# Altium integrated library Z1_Project.IntLib: 23 symbols
Pins are listed as number, name and electrical type; pins without a type are passive.

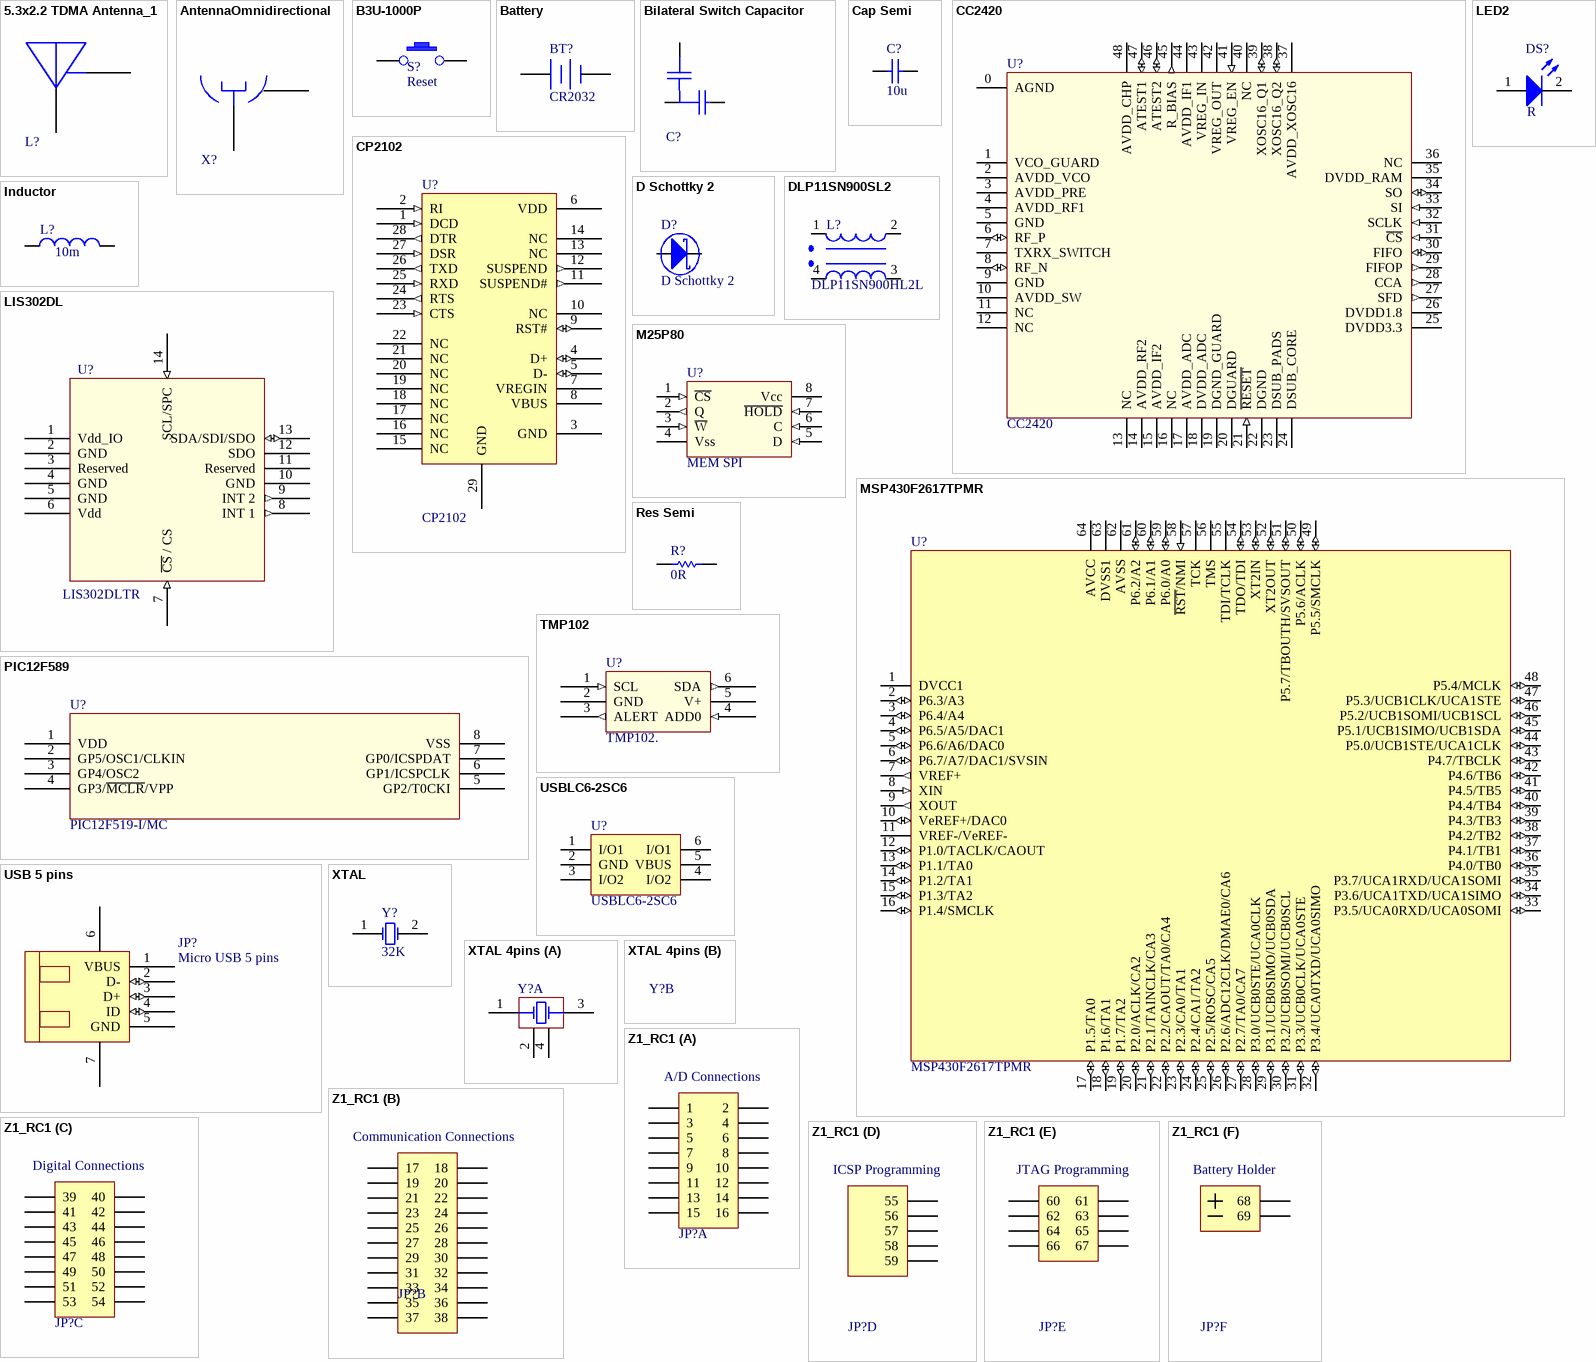
[diagram p0: symbols 5.3x2.2 TDMA Antenna_1 to Z1_RC1]

## 5.3x2.2 TDMA Antenna_1
designator L?, comment Ceramic Antenna  (value not drawn)
ANT 2.4GHZ 802.11 BLUETOOTH SMD; PartNumber: 431115300245; Manufacturer: PHYCOMP; OrderCode2: 1282672; UnitsPrice1: 100; Class: Passive; Distributor2: Farnell; Distributor3: *; OrderCode3: *; Mounted: Is Switched; Price1: 1.9; Price2: *; Price3: *; UnitsPrice2: *; UnitsPrice3: *; Datasheet: http://www.farnell.com/datasheets/48853.pdf
footprint YAGEO - CAW431115300245 (2.45Ghz Ceramic Annennta Yageo)
pins: 1 +, 2 GND

## AntennaOmnidirectional
designator X?, comment U.FL RF Connector  (value not drawn)
CONN RF MICROCOAXIAL SMD GOLD; PartNumber: 73412-0110; Manufacturer: Molex; OrderCode1: WM5587CT-ND; UnitsPrice1: 1000; Mounted: Yes; Distributor1: Digikey; Price1: 0.27488; Class: Connector; Datasheet: http://www.molex.com/pdm_docs/sd/734120110_sd.pdf; SubClass: Connector
footprint SMA JACK RADIALL (Straight Jack Receptacle for PCB solder legs)
footprint U.FL (Ultra small surface mount coaxial connectors)
footprint W.FL (Ultra small surface mount coaxial connectors)
pins: 1 +, 2 GND

## B3U-1000P
designator S?, comment Reset
Ultra-small Tactile Switch; Manufacturer: Omron; PartNumber: B3U-1000P; OrderCode1: SW1020CT-ND; OrderCode2: 1333652; UnitsPrice1: 1000; SubClass: PushButton; Mounted: Yes; Distributor1: Digikey; Distributor2: Farnell; Price1: 0.39186; Price2: 0,48; UnitsPrice2: 1000; Datasheet: http://www.components.omron.com/components/web/pdflib.nsf/0/7BE78C95147AE4A685257201007DD630/$file/MSG_Switches_8.06.pdf
footprint B3U-1000P (Ultra-small Tactile Switch for a 3x2.5mm body)
pins: 1, 2

## Battery
designator BT?, comment CR2032
Multicell Battery; Manufacturer: Tyco Electronics; PartNumber: 796136-1; OrderCode1: A99327-ND; UnitsPrice1: 500; UnitsPrice2: 10; Class: Connector; Value: +3.3V; Mounted: *; Distributor1: Digikey; Distributor2: Digikey; OrderCode2: A99327-ND; Price1: 1.111; Price2: 2.01; Datasheet: http://documents.tycoelectronics.com/commerce/DocumentDelivery/DDEController?Action=srchrtrv&DocNm=796136&DocType=CD&DocLang=EN
footprint BATTERYCLIP
footprint PCB_CR2477
footprint Dual battery Clip (AAA N & P Serial Dual battery Clip)
footprint CR2032 (Battery Holder SMT)
footprint PCB_CR2477_hf
footprint Battery 9V (Horizontal 9 volt pc snap-ons)
footprint BAT-HLD-001 (HOLDER BATTERY 20MM COIN CR2032)
footprint CR2032 - 796136-1 (BATTERY HOLDER SMD CR2032 Part Number: 796136-1)
pins: 1 +, 2 -

## Bilateral Switch Capacitor
designator C?  (value not drawn)
Manufacturer: AVX; PartNumber: 04025U5R6CAT2A; OrderCode1: 7568088; UnitsPrice1: 1000; Class: Passive; Value: 5p6; Distributor1: Farnell; Price1: 0,064; Datasheet: http://www.farnell.com/datasheets/319610.pdf; SubClass: Capacitor
footprint Dual Capacitor Switch (Is two 0402 with a pad common.)
signal-integrity model Cap Semi
simulation model CAP
pins: 1, 2, 3

## Cap Semi
designator C?  value 10u  (hidden comment: Cap Semi)
CAP CER 10UF 6.3V X5R 0603; Manufacturer: Generic Components; PartNumber: C0603C106M9PACTU; Class: Passive; SubClass: Capacitor; OrderCode1: 399-5504-1-ND; UnitsPrice1: 1000; Mounted: *; Distributor1: Digikey; Price1: 0.10571; Datasheet: http://www.kemet.com/datasheets&C0603C106M9PACTU
simulation model CAP (Semiconductor Capacitor)
signal-integrity model Cap Semi
footprint CC1005-0402 (Chip Capacitor; Body 1.0 x 0.5 mm (LxW typ))
footprint CC1310-0504 (Chip Capacitor; Body 1.2 x 1.0 mm (LxW typ))
footprint CC1608-0603 (Chip Capacitor; Body 1.6 x 0.8 mm (LxW typ))
footprint CC2013-0805 (Chip Capacitor; Body 2.0 x 1.3 mm (LxW typ))
footprint CC3216-1206 (Chip Capacitor; Body 3.2 x 1.6 mm (LxW typ))
footprint CC3225-1210 (Chip Capacitor; Body 3.2 x 2.5 mm (LxW typ))
footprint CC-0402-AL
pins: 1, 2

## CC2420
designator U?
2.4 GHz IEEE 802.15.4 / ZigBee-ready RF Transceiver; Manufacturer: Texas Instruments; PartNumber: CC2420RTC; OrderCode1: 296-19585-5-ND; UnitsPrice1: 1000; Distributor1: Digikey; Price1: 4.56250; Datasheet: http://focus.ti.com/lit/ds/symlink/cc2420.pdf
footprint QFN7X7-48 (Quad Flat No Lead; 48 Terminals; Body 7 x 7 mm; Pitch 0.5 mm)
pins: 0 AGND (power) "Exposed die attach pad. Must be connected to solid ground   plane", 1 VCO_GUARD (power) "Connection of guard ring for VCO (to AVDD) shielding", 2 AVDD_VCO (power) "1.8 V Power supply for VCO", 3 AVDD_PRE (power) "1.8 V Power supply for Prescaler", 4 AVDD_RF1 (power) "1.8 V Power supply for RF front-end", 5 GND (power) "Grounded pin for RF shielding", 6 RF_P (io) "Positive RF input/output signal to LNA/from PA in   receive/transmit mode", 7 TXRX_SWITCH (power) "Common supply connection for integrated RF front-end. Must be connected to RF_P and RF_N externally through a DC path", 8 RF_N (io) "Negative RF input/output signal to LNA/from PA in   receive/transmit mode", 9 GND (power) "Grounded pin for RF shielding", 10 AVDD_SW (power) "1.8 V Power supply for LNA / PA switch", 11 NC, 12 NC, 13 NC, 14 AVDD_RF2 (power) "1.8 V Power supply for receive and transmit mixers", 15 AVDD_IF2 (power) "1.8 V Power supply for transmit / receive IF chain", 16 NC, 17 AVDD_ADC (power) "1.8 V Power supply for analog parts of ADCs and DACs", 18 DVDD_ADC (power) "1.8 V Power supply for digital parts of receive ADCs", 19 DGND_GUARD (power) "Ground connection for digital noise isolation", 20 DGUARD (power) "1.8 V Power supply connection for digital noise isolation", 21 ~{RESET} (in) "Asynchronous, active low digital reset", 22 DGND (power) "Ground connection for digital core and pads", 23 DSUB_PADS (power) "Substrate connection for digital pads", 24 DSUB_CORE (power) "Substrate connection for digital modules", 25 DVDD3.3 (power) "3.3 V Power supply for digital I/Os", 26 DVDD1.8 (power) "1.8 V Power supply for digital core", 27 SFD (out) "SFD (Start of Frame Delimiter) / digital mux output", 28 CCA (out) "CCA (Clear Channel Assessment) / digital mux output", 29 FIFOP (out) "High when number of bytes in FIFO exceeds threshold /   serial RF clock output in test mode", 30 FIFO (io) "High when data in FIFO /   serial RF data input / output in test mode", 31 ~{CS} (in) "SPI Chip select, active low", 32 SCLK (in) "SPI Clock input, up to 10 MHz", 33 SI (in) "SPI Slave Input. Sampled on the positive edge of SCLK", 34 SO (io) "SPI Slave Output. Updated on the negative edge of SCLK. Tristate when CSn high.", 35 DVDD_RAM (power) "1.8 V Power supply for digital RAM", 36 NC, 37 AVDD_XOSC16 (power) "1.8 V crystal oscillator power supply", 38 XOSC16_Q2 (io) "16 MHz Crystal oscillator pin 2", 39 XOSC16_Q1 (io) "16 MHz Crystal oscillator pin 1 or external clock input", 40 NC (power), 41 VREG_EN (in) "Voltage regulator enable, active high, held at VREG_IN voltage level when active", 42 VREG_OUT (power) "Voltage regulator 1.8 V power supply output", 43 VREG_IN (power) "Voltage regulator 2.1 to 3.6 V power supply input", 44 AVDD_IF1 (power) "1.8 V Power supply for transmit / receive IF chain", 45 R_BIAS (out) "External precision resistor, 43 k?, ± 1 %", 46 ATEST2 (io) "Analog test I/O for prototype and production testing", 47 ATEST1 (io) "Analog test I/O for prototype and production testing", 48 AVDD_CHP (power) "1.8 V Power supply for phase detector and charge pump"

## CP2102
designator U?
USB-to-Serial Converter from Silicon Laboratories; PartNumber: CP2102-GM; Manufacturer: Silicon labs; OrderCode1: 336-1160-ND; OrderCode2: 9282130; UnitsPrice1: 1000; UnitsPrice2: 500; Mounted: *; Distributor1: Digikey; Distributor2: Digikey; Distributor3: Farnell; Price1: 1.99392; Price2: 2.1; Datasheet: https://www.silabs.com/Support%20Documents/TechnicalDocs/cp2102.pdf
footprint MLP-28 (Compact 5 x 5 mm MLP-28 package from Silicon Labs); pin to pad 29>3
pins: 1 DCD (in), 2 RI (in), 3 GND (power), 4 D+ (io), 5 D- (io), 6 VDD (power), 7 VREGIN (power), 8 VBUS (power), 9 RST# (io), 10 NC, 11 SUSPEND# (out), 12 SUSPEND (out), 13 NC, 14 NC, 15 NC, 16 NC, 17 NC, 18 NC, 19 NC, 20 NC, 21 NC, 22 NC, 23 CTS (in), 24 RTS (out), 25 RXD (in), 26 TXD (out), 27 DSR (in), 28 DTR (out), 29 GND (power)

## D Schottky 2
designator D?
Schotkky Diode 1N5820; Manufacturer: ST; PartNumber: STPS140A; OrderCode1: 497-2453-1-ND; UnitsPrice1: 1000; Class: Passive; Distributor1: Digikey; Price1: 0.12663; Datasheet: http://www.st.com/stonline/books/pdf/docs/4935.pdf; SubClass: Diode
footprint STPS140A (Power Schottky Rectifier)
footprint Model Name (Model Description)
pins: 1 A, 2 K

## DLP11SN900SL2
designator L?, comment DLP11SN900HL2L
Choke Coil Common Mode 150mA SMD; Manufacturer: Murata; OrderCode1: 490-5143-1-ND; UnitsPrice1: 1000; UnitsPrice2: 10; Class: Passive; Distributor1: Digikey; Distributor2: Digikey; Distributor3: *; OrderCode2: 490-5143-1-ND; OrderCode3: *; Price1: 0.17288; Price2: 0.17288; Price3: 0.324; UnitsPrice3: *; Mounted: *; PartNumber: DLP11SN900HL2L; Datasheet: http://search.murata.co.jp/Ceramy/image/img/w_hinm/L0114E.pdf
footprint inductor-4pins (chip common mode choke coils)
pins: 1, 2, 3, 4

## Inductor
designator L?  value 10m  (hidden comment: Inductor)
Manufacturer: Taiyo Yuden; PartNumber: BK1005HS102-T; Class: Passive; OrderCode1: 587-1841-1-ND; UnitsPrice1: 100; SubClass: Inductor; Distributor1: Digikey; Price1: 0.03; Datasheet: http://www.yuden.co.jp/us/product/pdf/ebk1_e.pdf
footprint COIL
simulation model INDUCTOR (Inductor)
signal-integrity model Inductor
footprint VLP5612 (SMD Inductors (Coils) For Power Line (Wound))
footprint ELL6xH Series H (SMD Choke Coils)
footprint INDC1005-0402 (Chip Inductor; Body 1 x 0.5 mm (LxW typ))
footprint TOKO A997AS-4R7M (Fixed Inductors for Surface Mounting)
footprint INDC1608-0603 (Chip Inductor; Body 1.6 x 0.8 mm (LxW typ))
footprint INDC2010-0804 (Chip Inductor; Body 2.0 x 1.2 mm (LxW typ))
footprint INDC2012-0805 (Chip Inductor; Body 2 x 1.2 mm (LxW typ))
footprint INDC2115-0806 (Chip Inductor; Body 2.1 x 1.5 mm (LxW typ))
footprint INDC3216-1206 (Chip Inductor; Body 3.2 x 1.6 mm (LxW typ))
footprint INDC3225-1210 (Chip Inductor; Body 3.2 x 2.5 mm (LxW typ))
footprint LPS5015
footprint CR-0402-AL (A alternative and adjust 0402 footprint.)
pins: 1, 2

## LED2
designator DS?, comment R
LED 1.6X0.8MM 631NM RED CLR SMD; Manufacturer: KingBright; PartNumber: APG1608SURKC/T; Class: Optoelectronic; OrderCode1: 754-1359-1-ND; OrderCode2: 604-APG1608SURKC/T; UnitsPrice1: 500; Mounted: *; Distributor1: Digikey; Distributor2: Mouser; Price1: 0.06854; Price2: 0.07; UnitsPrice2: 500; SubClass: LED; Datasheet: http://www.kingbrightusa.com/images/catalog/SPEC/APG1608SURKC-T.pdf
simulation model LED2 (Diode)
footprint LEDSMD
footprint LEDSMD_SIDEVIEW (SMD SIDEVIEW)
footprint LED0603
pins: 1 A, 2 K

## LIS302DL
designator U?, comment LIS302DLTR
MEMS motion sensor  3-axis - ±2g/±8g smart digital output “piccolo” accelerometer; Manufacturer: ST; OrderCode1: 497-5911-1-ND; Ordercode2: 511-LIS302DL; UnitsPrice1: 500; Distributor1: Digikey; Distributor2: Mouser; PartNumber: LIS302DLTR; Price1: 5.51074; Price2: 8.84; UnitsPrice2: 500; Datasheet: http://www.st.com/stonline/books/pdf/docs/12726.pdf
footprint LGA-3x5x1 0.8 (LGA 14 I/O. 3x5x1 Pitch 0.8)
footprint LGA-3x5x1 0.8 - 1.5 (LGA 14 I/O. 3x5x1 Pitch 0.8 y 1.5mm de pad)
footprint LGA-3x5x1 0.8 - 2 (LGA 14 I/O. 3x5x1 Pitch 0.8 y 2mm de pad)
pins: 1 Vdd_IO (power) "Digital Power for I/O pads", 2 GND (power) "Ground", 3 Reserved "Connect to Vdd", 4 GND (power) "0V supply", 5 GND (power) "Ground", 6 Vdd (power) "Power Supply", 7 ~{CS} / CS (in) "SPI Enable (0), I  2C Enable (1)", 8 INT 1 (out) "Inertial Interrupt 1", 9 INT 2 (out) "Inertial Interrupt 2", 10 GND (power) "0V Power Supply", 11 Reserved "Connect to Gnd", 12 SDO "SPI Serial Data Output", 13 SDA/SDI/SDO (io) "I  2C Serial Data (SDA), SPI Serial Data Input (SDI), 3-wire interface Serial Data Output (SDO)", 14 SCL/SPC (in) "I  2C Serial Clock (SCL), SPI Serial Clock (SPC)"

## M25P80
designator U?, comment MEM SPI
8 Mbit, low voltage, serial Flash memory  with 75 MHz SPI bus interface; Manufacturer: ST; PartNumber: M25P16-VMP6G; OrderCode1: M25P16-VMP6G-ND; UnitsPrice1: 500; OrderCode3: *; Price1: 1.89002; Price3: *; UnitsPrice3: *; Distributor1: Digikey; Distributor3: *; Datasheet: http://www.numonyx.com/Documents/Datasheets/M25P80.pdf
footprint VFQFPN8 (VFQFPN8 (MLP8) 8-lead Very thin Fine Pitch Quad Flat Package No lead,  6 × 5 mm, package outline)
footprint SO-G8/Z7.45 (Small Outline; 8 Leads; Body Width 3.9 mm; Pitch 1.27 mm)
pins: 1 ~{CS} (in) "Chip Select", 2 Q (out) "Serial Data output (Q)  This output signal is used to transfer data serially out of the device. Data is shifted out on the falling edge of Serial Clock (C).", 3 ~{W} (in) "Write Protect (W)  The main purpose of this input signal is to freeze the size of the area of memory that is   protected against program or erase instructions (as specified by the values in the BP2, BP1 and BP0 bits of the Status Register).", 4 Vss (power), 5 D (in) "Serial Data input (D)  This input signal is used to transfer data serially into the device. It receives instructions,   addresses, and the data to be programmed. Values are latched on the rising edge of Serial   Clock (C).", 6 C (in) "Serial Clock (C)  This input signal provides the timing of the serial interface. Instructions, addresses, or data   present at Serial Data Input (D) are latched on the rising edge of Serial Clock (C). Data on   Serial Data Output (Q) changes after the fa", 7 ~{HOLD} (in) "Hold (HOLD)  The Hold (HOLD) signal is used to pause any serial communications with the device without   deselecting the device.  During the Hold condition, the Serial Data Output (Q) is high impedance, and Serial Data   Input (D) and Serial Clock (C) ar", 8 Vcc (power)

## MSP430F2617TPMR
designator U?
MSP430F2617TPMR MICROCONTROLLER; Manufacturer: Texas Instruments; OrderCode1: 296-22695-2-ND; OrderCode2: 1649454; UnitsPrice1: 1000; UnitsPrice2: 100; OrderCode3: *; Price1: 7.94994; Price2: 9,26; Price3: *; UnitsPrice3: *; Distributor1: Digikey; Distributor2: Farnell; Distributor3: *; Mounted: *; PartNumber: MSP430F2617TPMR; Datasheet: http://focus.ti.com/lit/ds/symlink/msp430f2416.pdf
footprint F-QFP10x10-G64/N (64-Pin Plastic Quad Flat Pack (TQFP))
pins: 1 DVCC1 (power) "Digital supply voltage, positive terminal. Supplies all digital parts.", 2 P6.3/A3 (io) "General-purpose digital I/O pin/analog input A0 – 12-bit ADC", 3 P6.4/A4 (io) "General-purpose digital I/O pin/analog input A0 – 12-bit ADC", 4 P6.5/A5/DAC1 (io) "General-purpose digital I/O pin/analog input A5 – 12-bit ADC/DAC12.1 output", 5 P6.6/A6/DAC0 (io) "General-purpose digital I/O pin/analog input A5 – 12-bit ADC/DAC12.0 output", 6 P6.7/A7/DAC1/SVSIN (io) "General-purpose digital I/O pin/analog input a7 – 12-bit ADC/DAC12.1 output/SVS input", 7 VREF+ (out) "Output of positive terminal of the reference voltage in the ADC12", 8 XIN (in) "Input port for crystal oscillator XT1. Standard or watch crystals can be connected.", 9 XOUT (out) "Output port for crystal oscillator XT1. Standard or watch crystals can be connected", 10 VeREF+/DAC0 (io) "Input for an external reference voltage/DAC12.0 output", 11 VREF-/VeREF- (power) "Negative terminal for the reference voltage for both sources, the internal reference voltage, or an external applied reference voltage", 12 P1.0/TACLK/CAOUT (io) "General-purpose digital I/O pin/Timer_A, clock signal TACLK input/Comparator_A output", 13 P1.1/TA0 (io) "General-purpose digital I/Opin/Timer_A, capture:CCI0A input, compare:Out0 output/BSL transmit", 14 P1.2/TA1 (io) "General-purpose digital I/O pin/Timer_A, capture: CCI1A input, compare: Out1 output", 15 P1.3/TA2 (io) "General-purpose digital I/O pin/Timer_A, capture: CCI2A input, compare: Out2 output", 16 P1.4/SMCLK (io) "General-purpose digital I/O pin/SMCLK signal output", 17 P1.5/TA0 (io) "General-purpose digital I/O pin/Timer_A, compare: Out0 output", 18 P1.6/TA1 (io) "General-purpose digital I/O pin/Timer_A, compare: Out1 output", 19 P1.7/TA2 (io) "General-purpose digital I/O pin/Timer_A, compare: Out2 output", 20 P2.0/ACLK/CA2 (io) "General-purpose digital I/O pin/ACLK output/Comparator_A input", 21 P2.1/TAINCLK/CA3 (io) "General-purpose digital I/O pin/Timer_A, clock signal at INCLK", 22 P2.2/CAOUT/TA0/CA4 (io) "General-purpose digital I/O pin/Timer_A, capture: CCI0B input/Comparator_A output/BSL receive/Comparator_A input", 23 P2.3/CA0/TA1 (io) "General-purpose digital I/O pin/Timer_A, compare: Out1 output/Comparator_A input", 24 P2.4/CA1/TA2 (io) "General-purpose digital I/O pin/Timer_A, compare: Out2 output/Comparator_A input", 25 P2.5/ROSC/CA5 (io) "General-purpose digital I/O pin/input for external resistor defining the DCO nominal frequency/Comparator_A input", 26 P2.6/ADC12CLK/DMAE0/CA6 (io) "General-purpose digital I/O pin/conversion clock – 12-bit ADC/DMA channel 0 external trigger/Comparator_A input", 27 P2.7/TA0/CA7 (io) "General-purpose digital I/O pin/Timer_A, compare: Out0 output/Comparator_A input", 28 P3.0/UCB0STE/UCA0CLK (io) "General-purpose digital I/O pin/USCI B0 slave transmit enable/USCI A0 clock input/output", 29 P3.1/UCB0SIMO/UCB0SDA (io) "General-purpose digital I/Opin/USCI B0 slave in/master out in SPImode, SDA I2C data in I2Cmode", 30 P3.2/UCB0SOMI/UCB0SCL (io) "General-purpose digital I/Opin/USCIB0 slave out/master in inSPImode,SCL I2Cclock in I2Cmode", 31 P3.3/UCB0CLK/UCA0STE (io) "General-purpose digital I/O/USCI B0 clock input/output, USCI A0 slave transmit enable", 32 P3.4/UCA0TXD/UCA0SIMO (io) "General-purpose digital I/Opin/USCIA transmit data output inUARTmode, slave data in/master out in SPI mode", 33 P3.5/UCA0RXD/UCA0SOMI (io) "General-purpose digital I/O pin/USCI A0 receive data input in UART mode, slave data out/master in in SPI mode", 34 P3.6/UCA1TXD/UCA1SIMO (io) "General-purpose digital I/O pin/USCI A1 transmit data output in UART mode, slave data in/master out in SPI mode", 35 P3.7/UCA1RXD/UCA1SOMI (io) "General-purpose digital I/O pin/USCIA1 receive data input in UART mode, slave data out/master in in SPI mode", 36 P4.0/TB0 (io) "General-purpose digital I/O pin/Timer_B, capture: CCI4A/B input, compare: Out0 output", 37 P4.1/TB1 (io) "General-purpose digital I/O pin/Timer_B, capture: CCI4A/B input, compare: Out1 output", 38 P4.2/TB2 (io) "General-purpose digital I/O pin/Timer_B, capture: CCI4A/B input, compare: Out2 output", 39 P4.3/TB3 (io) "General-purpose digital I/O pin/Timer_B, capture: CCI4A/B input, compare: Out3 output", 40 P4.4/TB4 (io) "General-purpose digital I/O pin/Timer_B, capture: CCI4A/B input, compare: Out4 output", 41 P4.5/TB5 (io) "General-purpose digital I/O pin/Timer_B, capture: CCI5A/B input, compare: Out5 output", 42 P4.6/TB6 (io) "General-purpose digital I/O pin/Timer_B, capture: CCI6A input, compare: Out6 output", 43 P4.7/TBCLK (io) "General-purpose digital I/O pin/Timer_B, clock signal TBCLK input", 44 P5.0/UCB1STE/UCA1CLK (io) "General-purpose digital I/O pin/USCI B1 slave transmit enable/USCI A1 clock input/output", 45 P5.1/UCB1SIMO/UCB1SDA (io) "General-purpose digital I/Opin/USCI B1slave in/master out in SPImode, SDA I2C data in I2Cmode", 46 P5.2/UCB1SOMI/UCB1SCL (io) "General-purpose digital I/Opin/USCI B1slave out/master in in SPImode, SCL I2Cclock in I2Cmode.", 47 P5.3/UCB1CLK/UCA1STE (io) "General-purpose digital I/O/USCI B1 clock input/output, USCI A1 slave transmit enable", 48 P5.4/MCLK (io) "General-purpose digital I/O pin/main system clock MCLK output", 49 P5.5/SMCLK (io) "General-purpose digital I/O pin/submain system clock SMCLK output", 50 P5.6/ACLK (io) "General-purpose digital I/O pin/auxiliary clock ACLK output", 51 P5.7/TBOUTH/SVSOUT (io) "General-purpose digital I/O pin/switch all PWM digital output ports to high impedance -- Timer_B TB0 to TB6/SVS comparator output", 52 XT2OUT (io) "General-purpose digital I/O pin/Output terminal of crystal oscillator XT2", 53 XT2IN (io) "General-purpose digital I/O pin/Input port for crystal oscillator XT2. Only standard crystals can be connected.", 54 TDO/TDI (io) "Test data output port. TDO/TDI data output or programming data input terminal.", 55 TDI/TCLK "Test data input or test clock input. The device protection fuse is connected to TDI/TCLK.", 56 TMS "Test mode select. TMS is used as an input port for device programming and test.", 57 TCK "Test clock (JTAG).TCKis the clock input port for device programming test and bootstrap loader start.", 58 ~{RST}/NMI (in) "Reset input, nonmaskable interrupt input port, or bootstrap loader start (in flash devices)", 59 P6.0/A0 (io) "General-purpose digital I/O pin/analog input A0 – 12-bit ADC", 60 P6.1/A1 (io) "General-purpose digital I/O pin/analog input A0 – 12-bit ADC", 61 P6.2/A2 (io) "General-purpose digital I/O pin/analog input A0 – 12-bit ADC", 62 AVSS (power) "Analog supply voltage, negative terminal. Supplies only the analog portion of ADC12 and DAC12.", 63 DVSS1 (power) "Digital supply voltage, negative terminal. Supplies all digital parts.", 64 AVCC (power) "Analog supply voltage, positive terminal. Supplies only the analog portion of ADC12 and DAC12."

## PIC12F589
designator U?, comment PartNumber: PIC12F519-I/MC  (hidden comment: 8-Bit CMOS Microcontroller)
8-Bit CMOS Microcontroller, Program Memory (KB)  1.5,  RAM Bytes  41, Data EEPROM (bytes)  64,  Pin Count  8; Manufacturer: Microchip; OrderCode1: PIC12F519-I/MC-ND; OrderCode2: 1548427; UnitsPrice1: 100; OrderCode3: *; UnitsPrice2: 100; UnitsPrice3: *; Price1: 0.5251; Price2: 0,58; Price3: *; Mounted: *; Distributor1: Digikey; Distributor2: Farnell; Distributor3: *; Datasheet: http://ww1.microchip.com/downloads/en/DeviceDoc/41319B.pdf
footprint SO-G8/E4.1 (Small Outline; 8 Leads; Body Width 5.3 mm; Pitch 1.27 mm)
footprint DFN 2x3x0.9mm (8-Lead Plastic Dual Flat, No Lead Package (MC) - 2x3x0.9mm Body [DFN])
pins: 1 VDD, 2 GP5/OSC1/CLKIN, 3 GP4/OSC2, 4 GP3/~{MCLR}/VPP, 5 GP2/T0CKI, 6 GP1/ICSPCLK, 7 GP0/ICSPDAT, 8 VSS

## Res Semi
designator R?  value 0R  (hidden comment: Res Semi)
Semiconductor Resistor; Manufacturer: Generic Components; Class: Passive; SubClass: Resistor; Manufacturer: *; Mounted: *; PartNumber: *
footprint CR1608-0603
simulation model RES (Semiconductor Resistor)
signal-integrity model Res Semi
footprint CR2012-0805 (Model Description)
footprint CR1005-0402 (Chip Resistor; Body 1.1 x 0.5 mm (LxW typ))
footprint CR3216-1206 (Chip Resistor; Body 3.2 x 1.6 mm (LxW typ))
footprint CR3225-1210 (Chip Resistor; Body 3.2 x 2.5 mm (LxW typ))
footprint CR-0402-AL (A alternative and adjust 0402 footprint.)
pins: 1, 2

## TMP102
designator U?, comment TMP102.
Low Power Digital Temperature Sensor  With SMBus /Two-Wire Serial Interface in SOT563. Voltage Supply 1.4 V ~ 3.6 V; PartNumber: TMP102AIDRLT; Manufacturer: Texas Instruments; Mounted: No; OrderCode1: 296-22055-2-ND; OrderCode2: 1652477; UnitsPrice1: 1000; UnitsPrice2: 500; OrderCode3: *; Distributor1: Digikey; Distributor2: Farnell; Distributor3: *; Price1: 0.99099; Price2: 1.16; Price3: *; UnitsPrice3: *; Datasheet: http://focus.ti.com/lit/ds/symlink/tmp102.pdf
footprint SOT-TMP102 (Plastic Small Outline 1,7x1,7mm Pitch:0.5mm, 6pins)
pins: 1 SCL (in), 2 GND (power), 3 ALERT (out), 4 ADD0 (in), 5 V+ (power), 6 SDA (out)

## USB 5 pins
designator JP?, comment Micro USB 5 pins
Manufacturer: Hirose; PartNumber: ZX62D-B-5P8; OrderCode1: H11610CT-ND; OrderCode2: 798-ZX62D-B-5P8; UnitsPrice1: 500; Class: Connector; Distributor1: Digikey; Distributor2: Mouser; Price1: 0.43736; Price2: 0.45; UnitsPrice2: 500; Datasheet: http://www.hirose.co.jp/cataloge_hp/e24200011.pdf
footprint MUSB-F5M-AB (UX60-MB-5ST (240-0001-9))
footprint USB MINI-B REC (USBseries mini-b receptacle SMT type)
footprint MICRO USB R/A CONN RCPT 5POS (Connector Receptacle; Micro USB2.0, Type B, SM; 5 Position; Right Angle)
footprint MicroUSB WR-COM (SMR Horitzontal 5 contacts Micro USB Tyè B WR-COM)
3D model 473460001 (PCB3D Model)
footprint MicroUSB WR-COM-B (SMR Horitzontal 5 contacts Micro USB Tyè B WR-COM)
footprint ZX62D-B-5P8 (Micro B - Standard (Bottom mount), Shell through hole)
pins: 1 VBUS (power), 2 D- (io), 3 D+ (io), 4 ID (io), 5 GND, 6 SH2 "Shield contact pin", 7 SH1 "Shield contact pin"

## USBLC6-2SC6
designator U?, comment PartNumber: USBLC6-2SC6  (hidden comment: ESD protection)
VERY LOW CAPACITANCE  ESD PROTECTION; Manufacturer: ST Microelectronics; OrderCode1: 497-5235-1-ND; OrderCode2: 1269406; OrderCode3: 624-7693; UnitsPrice1: 1000; UnitsPrice3: 10; Distributor1: Digikey; Distributor2: Farnell; Distributor3: RS; UnitsPrice2: 1000; Price1: 0.40233; Price2: 0.39; Price3: 0.60; Mounted: *; Datasheet: http://www.st.com/stonline/books/pdf/docs/11265.pdf
footprint SO-G6/E2.4 (Small Outline; 6 Leads; Body 3.6 x 3.6 mm, inc. leads (LxW max))
pins: 1 I/O1, 2 GND, 3 I/O2, 4 I/O2, 5 VBUS, 6 I/O1

## XTAL
designator Y?, comment 32K
Crystal Oscillator; Manufacturer: Generic Components; Manufacturer: Abracon Technologies; PartNumber: ABS07-32.768KHZ-7-T; Value: 32Khz; OrderCode1: 535-9543-1-ND; UnitsPrice1: 1000; Class: Oscillator; SubClass: Crystal Oscillator; Mounted: *; Distributor1: Digikey; Price1: 0.53361; Datasheet: http://www.abracon.com/Resonators/ABS07.pdf
footprint BCY-F2/Z13
simulation model XTAL (Spice Subcircuit)
footprint 3SMXA
footprint BCY-W2/D2.1
footprint 12SMXA
footprint BCY-W2/D2.1
footprint CX-1-SM
footprint HC49/4H_SMX
footprint ST3215SB (Small, Low Profile (3.2×1.5×0.75mm). Ceramic Package. Kyocera.)
footprint ABS07-32.768KHZ-7-T (CRYSTAL 32.768KHZ 7PF SMD)
pins: 1 OSC1, 2 OSC2

## XTAL 4pins
designator Y?  (value not drawn)
XTAL 7.2pF Load Capacitance.; Manufacturer: Generic Components; Manufacturer: NDK; PartNumber: NX3225SA-16.000000MHZ-B3; Class: Oscillator; SubClass: Crystal Oscillator; Value: 16Mhz; OrderCode1: 644-1099-1-ND; UnitsPrice1: 1000; Mounted: yes; Distributor1: Digikey; Price1: 0.49480; Datasheet: http://media.digikey.com/pdf/Data%20Sheets/NDK%20PDFs/NX3225SA-16.000000MHz-B3.pdf
simulation model XTAL (Spice Subcircuit)
footprint NX3225SA- 16.000000Hhz-B3 (CRYSTAL 16.000Mhz CHIPSET NAME31343  TYPE NX3225A APPLICATION BLUETOOTH)
footprint Taitien XV (Taitien Crystal 5.3mm x 3.3mm)
footprint CFPX-5 (Surface Mount Quartz Crystal; Body 3.4 x 2.7 mm (LxW max))
part A pins: 1 OSC1, 2 GND, 3 OSC2, 4 GND

## Z1_RC1
designator JP?, comment Z1 Expansion Connector  (value not drawn)
Manufacturer: Samtec; PartNumber: TSW-108-05-G-D; Class: Connector; Distributor1: Samtec
footprint Z1 Expansion Connectors_RC1 (Expansion Connectors for the Z1 board (RC1))
footprint Z1 Expansion Connectors_RC2 (Expansion Connectors for the Z1 board (RC1))
part A pins: 1, 2, 3, 4, 5, 6, 7, 8, 9, 10, 11, 12, 13, 14, 15, 16
part B pins: 17, 18, 19, 20, 21, 22, 23, 24, 25, 26, 27, 28, 29, 30, 31, 32, 33, 34, 35, 36, 37, 38
part C pins: 39, 40, 41, 42, 43, 44, 45, 46, 47, 48, 49, 50, 51, 52, 53, 54
part D pins: 55, 56, 57, 58, 59
part E pins: 60, 61, 62, 63, 64, 65, 66, 67
part F pins: 68, 69
part A text: A/D Connections
part B text: Communication Connections
part C text: Digital Connections
part D text: ICSP Programming
part E text: JTAG Programming
part F text: Battery Holder